# Altium footprint library AMP Footprints.PcbLib: 903 footprints (part 58 of 58)
Each footprint in its own frame and in the unit in brackets; x right, y up, seen from the top. Pads: shape width x height; smd on the part's side, far side on the other; paste and mask are expansions set on the pad; w line width, h text height; cw(c..) or ccw(c..) is an arc to the next point about the centre after c.
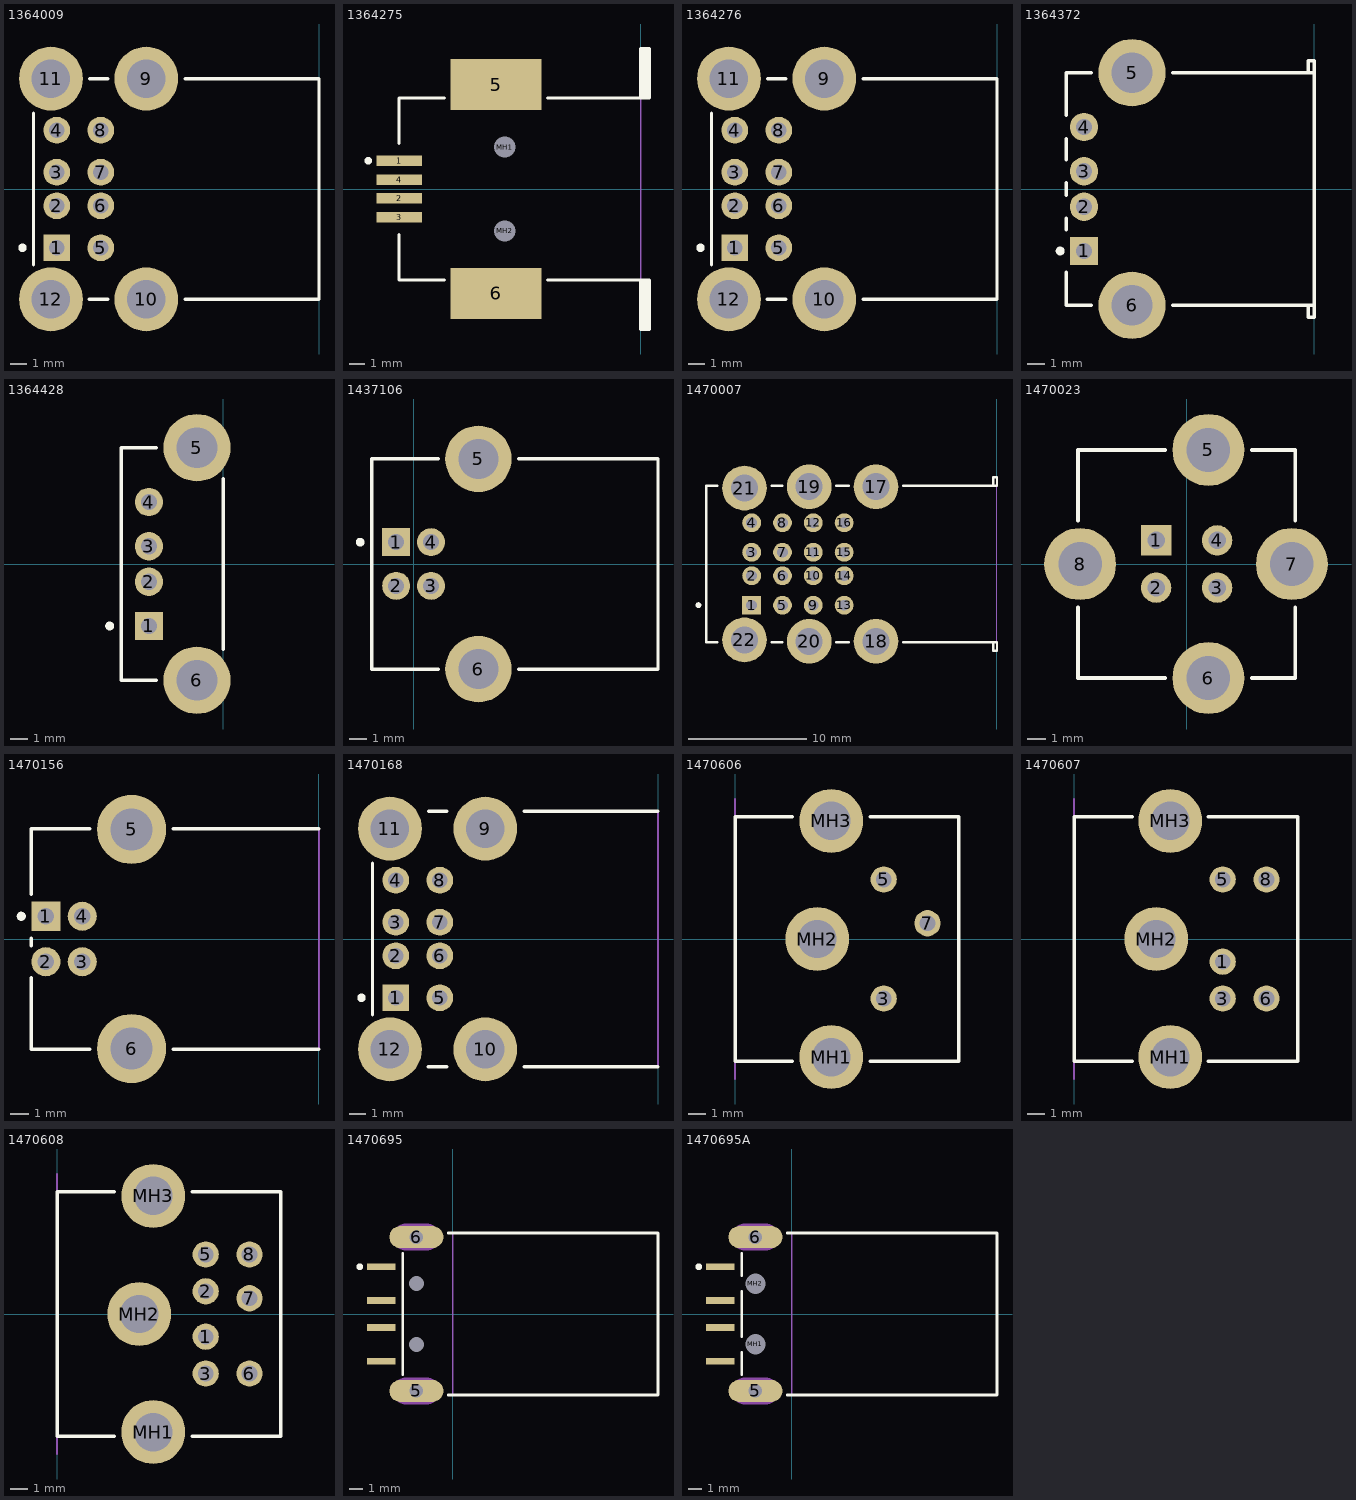
[diagram p57: the footprints below, top view; thin cyan lines are the x and y axes]

## 1364009 [mm] "Connector; USB1.1, Type A, Thru-Hole; 4x4 Position; Right Angle"
height 15.51
pads (12):
  rect 1.6x1.6 hole 0.92: 1(-15.61,-3.5)
  round 1.6 hole 0.92: 2(-15.61,-1) 3(-15.61,1) 4(-15.61,3.5) 5(-12.99,-3.5) 6(-12.99,-1) 7(-12.99,1) 8(-12.99,3.5)
  round 3.8 hole 2.3: 9(-10.28,6.57) 10(-10.28,-6.57) 11(-15.96,6.57) 12(-15.96,-6.57)
Top Overlay:
  circle w0.25: c-17.65,-3.5 r0.125
  lines w0.2: -17,-4.51 -17,4.51 ; -13.68,-6.565 -12.58,-6.565 ; -13.66,6.565 -12.58,6.565 ; -7.97,-6.565 0,-6.565 0,6.565 -7.97,6.565

## 1364275 [mm] "Connector; USB1.1, Type B, SM; 4 Position; Right Angle"
height 11
pads (8):
  rect 3x0.7 smd: 1(-16,1.875) 2(-16,-0.625) 3(-16,-1.875) 4(-16,0.625)
  rect 6.04x3.4 smd: 5(-9.58,6.92) 6(-9.58,-6.92)
  round 1.1 hole 1.4 unplated: MH1(-9,2.775) MH2(-9,-2.775)
Top Overlay:
  circle w0.25: c-18.05,1.875 r0.125
  rectangle: 0,6.02 0.6,9.32
  rectangle: 0,-9.32 0.6,-6.02
  lines w0.2: -16,-3 -16,-6.02 -13,-6.02 ; -16,3 -16,6.02 -13,6.02 ; -6.16,-6.02 0,-6.02 ; -6.16,6.02 0,6.02 ; 0,-6.02 0,-9.32 0.6,-9.32 0.6,-6.02 0,-6.02 ; 0,6.02 0,9.32 0.6,9.32 0.6,6.02 0,6.02
Mechanical 1:
  lines w0.1: 0,-6.02 0,6.02
  text "PCB Edge" at -0.219,-5.75 h0.25

## 1364276 [mm] "Connector; USB1.1, Type A, Thru-Hole; 4x4 Position; Right Angle"
height 15.51
pads (12):
  rect 1.6x1.6 hole 0.92: 1(-15.61,-3.5)
  round 1.6 hole 0.92: 2(-15.61,-1) 3(-15.61,1) 4(-15.61,3.5) 5(-12.99,-3.5) 6(-12.99,-1) 7(-12.99,1) 8(-12.99,3.5)
  round 3.8 hole 2.3: 9(-10.28,6.57) 10(-10.28,-6.57) 11(-15.96,6.57) 12(-15.96,-6.57)
Top Overlay:
  circle w0.25: c-17.65,-3.5 r0.125
  lines w0.2: -17,-4.51 -17,4.51 ; -13.68,-6.565 -12.58,-6.565 ; -13.66,6.565 -12.58,6.565 ; -7.97,-6.565 0,-6.565 0,6.565 -7.97,6.565

## 1364372 [mm] "Connector; USB1.1, Type A, Thru-Hole; 4 Position; Right Angle"
height 7.01
pads (6):
  rect 1.6x1.6 hole 0.92: 1(-12.99,-3.5)
  round 1.6 hole 0.92: 2(-12.99,-1) 3(-12.99,1) 4(-12.99,3.5)
  round 3.8 hole 2.3: 5(-10.28,6.57) 6(-10.28,-6.57)
Top Overlay:
  circle w0.25: c-14.34,-3.5 r0.125
  lines w0.2: -14,-4.7 -14,-6.565 -12.58,-6.565 ; -14,-2.3 -14,-1.66 ; -14,-0.34 -14,0.34 ; -14,1.66 -14,2.84 ; -14,4.16 -14,6.565 -12.58,6.565 ; -7.98,-6.565 0,-6.565 ; -7.98,6.565 0,6.565 ; -0.32,-6.565 -0.32,-7.25 0,-7.25 0,-6.565 ; -0.32,6.565 -0.32,7.25 0,7.25 0,6.565 ; 0,-6.565 0,6.565

## 1364428 [mm] "Connector; USB1.1, Type A, Thru-Hole; 4 Position; Vertical"
height 15
pads (6):
  rect 1.6x1.6 hole 0.92: 1(-4.19,-3.5)
  round 1.6 hole 0.92: 2(-4.19,-1) 3(-4.19,1) 4(-4.19,3.5)
  round 3.8 hole 2.3: 5(-1.48,6.57) 6(-1.48,-6.57)
Top Overlay:
  circle w0.25: c-6.41,-3.5 r0.125
  lines w0.2: -3.78,-6.57 -5.76,-6.57 -5.76,6.57 -3.78,6.57 ; 0,-4.81 0,4.81

## 1437106 [mm] "Connector; USB1.1, Type B, Thru-Hole; 4 Position; Right Angle"
height 11.1
pads (6):
  rect 1.6x1.6 hole 0.92: 1(-1,1.25)
  round 1.6 hole 0.92: 2(-1,-1.25) 3(1,-1.25) 4(1,1.25)
  round 3.8 hole 2.3: 5(3.71,6.02) 6(3.71,-6.02)
Top Overlay:
  circle w0.25: c-3.06,1.25 r0.125
  lines w0.2: 1.41,-6.02 -2.41,-6.02 -2.41,6.02 1.41,6.02 ; 6.01,-6.02 13.99,-6.02 13.99,6.02 6.01,6.02

## 1470007 [mm] "Connector; USB1.1, Type A, Thru-Hole; 4x4x4x4 Position; Right Angle"
height 32.84
pads (22):
  rect 1.6x1.6 hole 0.92: 1(-20.85,-3.5)
  round 1.6 hole 0.92: 2(-20.85,-1) 3(-20.85,1) 4(-20.85,3.5) 5(-18.23,-3.5) 6(-18.23,-1) 7(-18.23,1) 8(-18.23,3.5) 9(-15.61,-3.5) 10(-15.61,-1) 11(-15.61,1) 12(-15.61,3.5) 13(-12.99,-3.5) 14(-12.99,-1) 15(-12.99,1) 16(-12.99,3.5)
  round 3.8 hole 2.3: 17(-10.28,6.57) 18(-10.28,-6.57) 19(-15.96,6.57) 20(-15.96,-6.57) 21(-21.46,6.45) 22(-21.46,-6.45)
Top Overlay:
  circle w0.25: c-25.37,-3.5 r0.125
  lines w0.2: -23.76,-6.65 -24.72,-6.65 -24.72,6.65 -23.76,6.65 ; -19.16,-6.65 -18.26,-6.65 ; -19.16,6.65 -18.26,6.65 ; -13.66,-6.65 -12.58,-6.65 ; -13.66,6.65 -12.58,6.65 ; -7.98,-6.65 0,-6.65 0,-7.37 -0.32,-7.37 -0.32,-6.65 ; -7.98,6.65 0,6.65 0,7.37 -0.32,7.37 -0.32,6.65
Mechanical 1:
  lines w0.1: 0,-6.65 0,6.65
  text "PCB Edge" at -0.258,-6.292 h0.2

## 1470023 [mm] "Connector; USB1.1, Type B, Thru-Hole; 4 Position; Vertical"
height 15.62
pads (8):
  rect 1.6x1.6 hole 0.92: 1(-1.61,1.25)
  round 1.6 hole 0.92: 2(-1.61,-1.25) 3(1.61,-1.25) 4(1.61,1.25)
  round 3.8 hole 2.3: 5(1.15,6.02) 6(1.15,-6.02) 7(5.56,0) 8(-5.63,0)
Top Overlay:
  lines w0.2: -5.73,-2.3 -5.73,-6.02 -1.15,-6.02 ; -5.73,2.3 -5.73,6.02 -1.15,6.02 ; 3.45,-6.02 5.73,-6.02 5.73,-2.3 ; 3.45,6.02 5.73,6.02 5.73,2.3

## 1470156 [mm] "Connector; USB1.1, Type B, Thru-Hole; 4 Position; Right Angle"
height 10.95
pads (6):
  rect 1.6x1.6 hole 0.92: 1(-15.01,1.25)
  round 1.6 hole 0.92: 2(-15.01,-1.25) 3(-13.01,-1.25) 4(-13.01,1.25)
  round 3.8 hole 2.3: 5(-10.3,6.02) 6(-10.3,-6.02)
Top Overlay:
  circle w0.25: c-16.36,1.25 r0.125
  lines w0.2: -15.82,-2.14 -15.82,-6.05 -12.6,-6.05 ; -15.82,-0.36 -15.82,0.05 ; -15.82,2.45 -15.82,6.05 -12.6,6.05 ; -8,-6.05 -0.02,-6.05 ; -8,6.05 -0.02,6.05
Mechanical 1:
  lines w0.1: 0,-6.05 0,6.05
  text "PCB Edge" at -0.325,-5.651 h0.25

## 1470168 [mm] "Connector; USB1.1, Type A, Thru-Hole; 4x4 Position; Right Angle"
height 16.8
pads (12):
  rect 1.6x1.6 hole 0.92: 1(-15.61,-3.5)
  round 1.6 hole 0.92: 2(-15.61,-1) 3(-15.61,1) 4(-15.61,3.5) 5(-12.99,-3.5) 6(-12.99,-1) 7(-12.99,1) 8(-12.99,3.5)
  round 3.8 hole 2.3: 9(-10.28,6.57) 10(-10.28,-6.57) 11(-15.96,6.57) 12(-15.96,-6.57)
Top Overlay:
  circle w0.25: c-17.65,-3.5 r0.125
  lines w0.2: -17,-4.51 -17,4.51 ; -13.68,-7.6 -12.58,-7.6 ; -13.66,7.6 -12.58,7.6 ; -7.97,-7.6 0,-7.6 ; -7.97,7.6 0,7.6
Mechanical 1:
  lines w0.1: 0,-7.6 0,7.6
  text "PCB Edge" at -0.2,-7.29 h0.2

## 1470606 [mm] "Connector; Circular DIN, Thru-Hole; 3 Position; Right Angle; Pitch 2.1/2.6 mm; Body 14 x 12.8 x 13 mm (WxTxH), Shielded"
height 13
pads (6):
  round 1.5 hole 0.9: 3(8.5,-3.405) 5(8.5,3.405) 7(11,0.9)
  round 3.65 hole 2.2: MH1(5.5,-6.75) MH2(4.7,0) MH3(5.5,6.75)
Top Overlay:
  lines w0.2: 3.275,-7 0,-7 0,7 3.275,7 ; 7.725,-7 12.8,-7 12.8,7 7.725,7
Mechanical 1:
  lines w0.1: 0,-8 0,8
  text "PCB Edge" at 0.6,-6.6 h0.25

## 1470607 [mm] "Connector; Circular DIN, Thru-Hole; 5 Position; Right Angle; Pitch 2.1/2.6 mm; Body 14 x 12.8 x 13 mm (WxTxH), Shielded, Special PCB Retention"
height 13
pads (8):
  round 1.5 hole 0.9: 1(8.5,-1.3) 3(8.5,-3.405) 5(8.5,3.405) 6(11,-3.405) 8(11,3.405)
  round 3.65 hole 2.2: MH1(5.5,-6.75) MH2(4.7,0) MH3(5.5,6.75)
Top Overlay:
  lines w0.2: 3.34,-7 0,-7 0,7 3.34,7 ; 7.66,-7 12.8,-7 12.8,7 7.66,7
Mechanical 1:
  lines w0.1: 0,-8 0,8
  text "PCB Edge" at 0.6,-6.7 h0.25

## 1470608 [mm] "Connector; Circular DIN, Thru-Hole; 7 Position; Right Angle; Pitch 2.11/2.59 mm; Body 14 x 12.8 x 13 mm (WxTxH), Shielded"
height 13
pads (10):
  round 1.5 hole 0.9: 1(8.5,-1.295) 2(8.5,1.295) 3(8.5,-3.405) 5(8.5,3.405) 6(11,-3.405) 7(11,0.9) 8(11,3.405)
  round 3.65 hole 2.2: MH1(5.5,-6.75) MH2(4.7,0) MH3(5.5,6.75)
Top Overlay:
  lines w0.2: 3.275,-7 0,-7 0,7 3.275,7 ; 7.725,-6.99 12.8,-7 12.8,7 7.725,7
Mechanical 1:
  lines w0.1: 0,-8 0,8
  text "PCB Edge" at 0.6,-6.7 h0.25

## 1470695 [mm] "Connector; USB1.1, Type A, SM; 4 Position; Right Angle"
height 4.5
pads (8):
  rect 2.1x0.5 smd: 1(-5.3,3.5) 2(-5.3,1) 3(-5.3,-1) 4(-5.3,-3.5)
  oval 4x1.65 hole 1: 5(-2.7,-5.7) 6(-2.7,5.7)
  round 0.8 hole 1.1 unplated: MH1(-2.7,-2.25) MH2(-2.7,2.25)
Top Overlay:
  circle w0.25: c-6.9,3.5 r0.125
  lines w0.2: -3.7,-4.475 -3.7,4.475 ; -0.33,-6 15.2,-6 15.2,6 -0.33,6
Mechanical 1:
  lines w0.1: 0,-6 0,6
  lines w1: -3.45,-5.7 -1.95,-5.7 ; -3.45,5.7 -1.95,5.7
  text "PCB Edge" at 0.473,-5.173 h0.25
  text "Alert PCB fab to slot details" at -1,8.176 h0.3
  text "Slot 1x2.5mm, PTH" at -1,7.676 h0.3
  text "Assign keep-out area to slot" at -1,8.676 h0.3
  text "Mech 1 - Slot cut-out" at -1,7.176 h0.3
  text "Mech 2 - Clearance, move to internal plane if present" at -1,6.676 h0.3
Mechanical 2:
  lines w2.016: -3.45,-5.7 -1.95,-5.7 ; -3.45,5.7 -1.95,5.7

## 1470695A [mm] "Connector; USB1.1, Type A, SM; 4 Position; Right Angle"
height 4.5
pads (8):
  rect 2.1x0.5 smd: 1(-5.3,3.5) 2(-5.3,1) 3(-5.3,-1) 4(-5.3,-3.5)
  oval 4x1.65 hole 1: 5(-2.7,-5.7) 6(-2.7,5.7)
  round 1.2 hole 1.5 unplated: MH1(-2.7,-2.25) MH2(-2.7,2.25)
Top Overlay:
  circle w0.25: c-6.9,3.5 r0.125
  lines w0.2: -3.7,-4.475 -3.7,-2.83 ; -3.7,-1.68 -3.7,1.68 ; -3.7,2.83 -3.7,4.475 ; -0.33,-6 15.2,-6 15.2,6 -0.33,6
Mechanical 1:
  lines w0.1: 0,-6 0,6
  lines w1: -3.45,-5.7 -1.95,-5.7 ; -3.45,5.7 -1.95,5.7
  text "PCB Edge" at 0.473,-5.173 h0.25
  text "Alert PCB fab to slot details" at -1,8.176 h0.3
  text "Slot 1x2.5mm, PTH" at -1,7.676 h0.3
  text "Assign keep-out area to slot" at -1,8.676 h0.3
  text "Mech 1 - Slot cut-out" at -1,7.176 h0.3
  text "Mech 2 - Clearance, move to internal plane if present" at -1,6.676 h0.3
Mechanical 2:
  lines w2.016: -3.45,-5.7 -1.95,-5.7 ; -3.45,5.7 -1.95,5.7